# EAGLE library part IOTAWATT_PARTS_MICROSD_PUSH/PULL (library IotaWatt3.2)
McroSD Amphenol push/pull
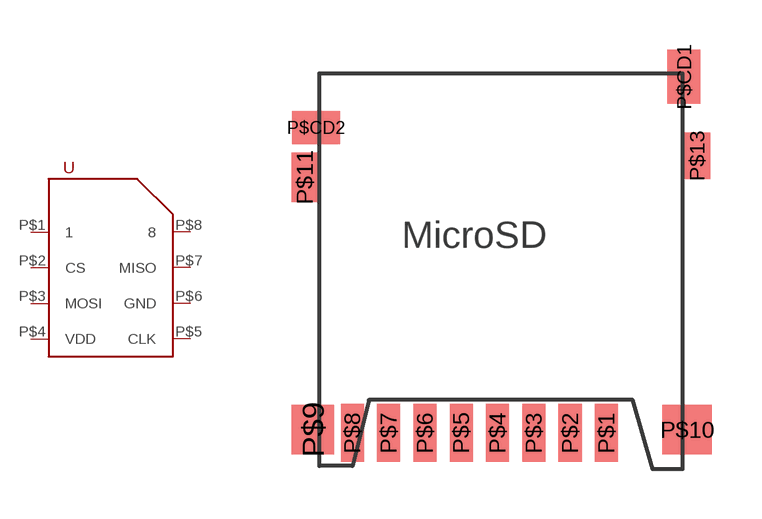
[diagram p1: symbol with the pads of IOTAWATT_PARTS_MICROSD; footprint IOTAWATT_PARTS_MICROSD]

Designator prefix -

## IOTAWATT_PARTS_MICROSD_PUSH/PULL  [IOTAWATT_PARTS_MICROSD]
P$1  1
P$2  CS
P$3  MOSI
P$4  VDD
P$5  CLK
P$6  GND
P$7  MISO
P$8  8

## Footprint IOTAWATT_PARTS_MICROSD (pad centres in mm)
Amphenol Micro SD push/pull
smd 0.7 x 1.75: P$1 3.2,-0.9; P$2 2.1,-0.9; P$3 1,-0.9; P$4 -0.1,-0.9; P$5 -1.2,-0.9; P$6 -2.3,-0.9; P$7 -3.4,-0.9; P$8 -4.5,-0.9
smd 1.3 x 1.5: P$9 -5.7,-0.8
smd 1.5 x 1.5: P$10 5.65,-0.8
smd 0.8 x 1.5: P$11 -5.95,6.85
smd 0.8 x 1.4: P$13 5.95,7.5
smd 1 x 1.65: P$CD1 5.55,9.9
smd 1.45 x 1: P$CD2 -5.6,8.35